# EAGLE library part ATSAML21E (library greg-MCU)
Atmel SAML21E ARM Cortex-M0+ Microcontroller The Atmel ® | SMART ™ SAM L21 is a series of low-power microcontrollers using the 32-bit ARM ® Cortex ® -M0+ processor, and ranging from 32- to 64-pins with up to 256KB Flash and 32KB of SRAM. The SAM L21 devices operate at a maximum frequency of 48MHz and reach 2.46 CoreMark/MHz. They are designed for simple and intuitive migration with identical peripheral modules, hex compatible code, identical linear address map and pin compatible migration paths between all devices in the product series. All devices include intelligent and flexible peripherals, Atmel Event System for inter-peripheral signaling, and support for capacitive touch button, slider and wheel user interfaces.
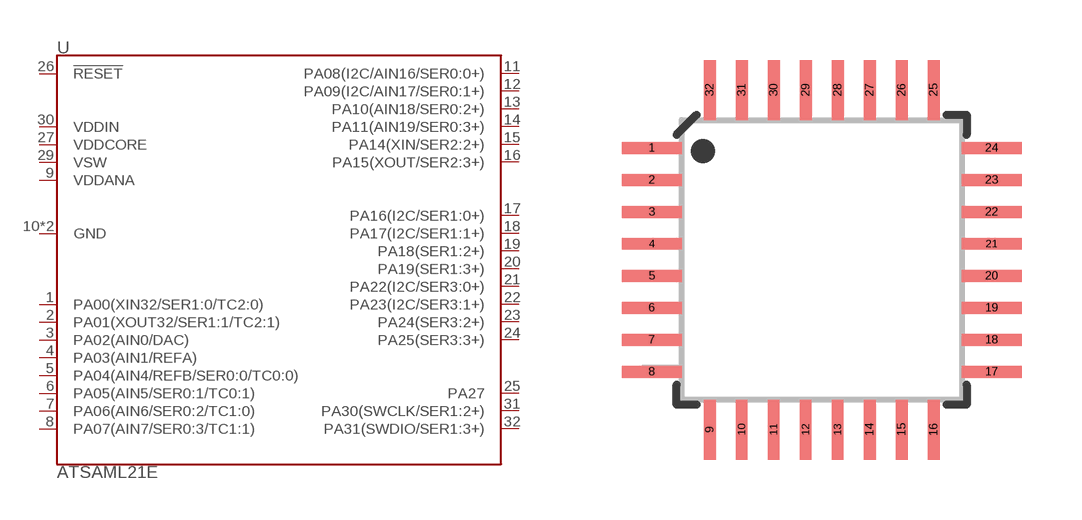
[diagram p0: symbol with the pads of TQFP-32-7X7-0.8MM; footprint TQFP-32-7X7-0.8MM]

Designator prefix U

## ATSAML21EA  [TQFP-32-7X7-0.8MM]
1  PA00(XIN32/SER1:0/TC2:0)
2  PA01(XOUT32/SER1:1/TC2:1)
3  PA02(AIN0/DAC)
4  PA03(AIN1/REFA)
5  PA04(AIN4/REFB/SER0:0/TC0:0)
6  PA05(AIN5/SER0:1/TC0:1)
7  PA06(AIN6/SER0:2/TC1:0)
8  PA07(AIN7/SER0:3/TC1:1)
9  VDDANA
10  GND
11  PA08(I2C/AIN16/SER0:0+)
12  PA09(I2C/AIN17/SER0:1+)
13  PA10(AIN18/SER0:2+)
14  PA11(AIN19/SER0:3+)
15  PA14(XIN/SER2:2+)
16  PA15(XOUT/SER2:3+)
17  PA16(I2C/SER1:0+)
18  PA17(I2C/SER1:1+)
19  PA18(SER1:2+)
20  PA19(SER1:3+)
21  PA22(I2C/SER3:0+)
22  PA23(I2C/SER3:1+)
23  PA24(SER3:2+)
24  PA25(SER3:3+)
25  PA27
26  !RESET!
27  VDDCORE
28  GND
29  VSW
30  VDDIN
31  PA30(SWCLK/SER1:2+)
32  PA31(SWDIO/SER1:3+)

## Footprint TQFP-32-7X7-0.8MM (pad centres in mm)
smd 1.5 x 0.3: 1 -4.25,2.8; 2 -4.25,2; 3 -4.25,1.2; 5 -4.25,-0.4; 6 -4.25,-1.2; 7 -4.25,-2; 8 -4.25,-2.8; 17 4.25,-2.8; 18 4.25,-2; 19 4.25,-1.2; 20 4.25,-0.4; 22 4.25,1.2; 23 4.25,2; 24 4.25,2.8
smd 1.5 x 0.28: 4 -4.25,0.4; 21 4.25,0.4
smd 0.3 x 1.5: 9 -2.8,-4.25; 14 1.2,-4.25; 15 2,-4.25; 16 2.8,-4.25; 25 2.8,4.25; 26 2,4.25; 27 1.2,4.25; 28 0.4,4.25; 29 -0.4,4.25; 30 -1.2,4.25; 31 -2,4.25; 32 -2.8,4.25
smd 0.28 x 1.5: 10 -2,-4.25; 11 -1.2,-4.25; 12 -0.4,-4.25; 13 0.4,-4.25